# Altium schematic symbol library Miscellaneous.SchLib: 16 symbols
Pins are listed as number, name and electrical type; pins without a type are passive.

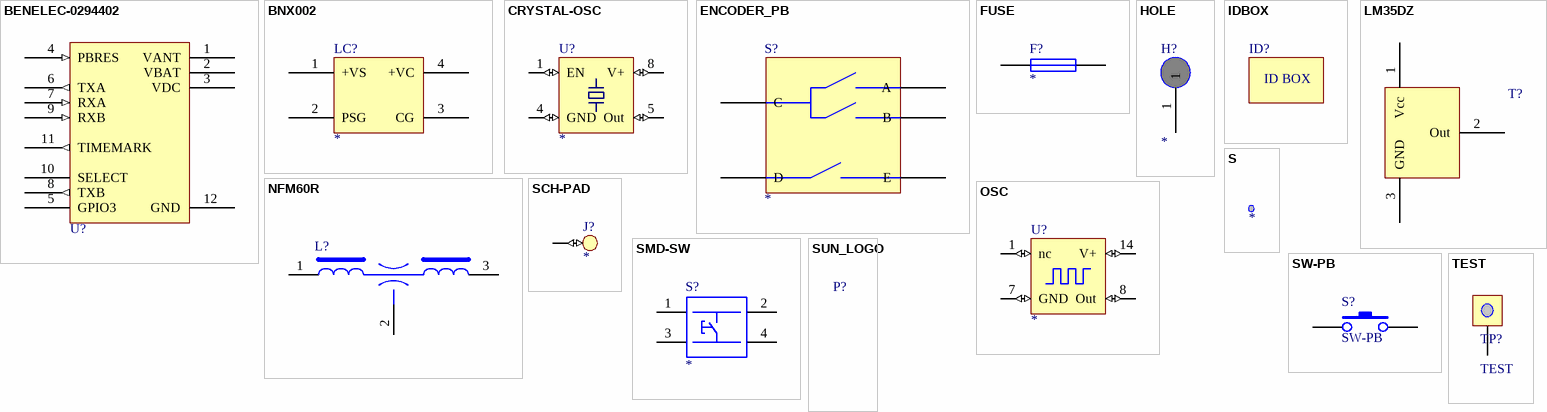
[diagram p0: symbols BENELEC-0294402 to TEST]

## BENELEC-0294402
designator U?
GPS Module; Supplier: Benelec
footprint BENELEC-0294402 (GPS Module)
pins: 1 VANT (power), 2 VBAT (power), 3 VDC (power), 4 PBRES (in), 5 GPIO3, 6 TXA (out), 7 RXA (in), 8 TXB (out), 9 RXB (in), 10 SELECT, 11 TIMEMARK (out), 12 GND (power)

## BNX002
designator LC?
10A Switchmode Supply Output Filter
footprint BNX002
pins: 1 +VS, 2 PSG, 3 CG, 4 +VC

## CRYSTAL-OSC
designator U?
Crystal Oscillator
pins: 1 EN (io), 4 GND (io), 5 Out (io), 8 V+ (io)

## ENCODER_PB
designator S?
Rotary encoder with push button
footprint CI-11
pins: 1 A, 2 B, 3 C, 4 D, 5 E

## FUSE
designator F?
Fuse
footprint FUSE0.9
footprint FUSE1.5
footprint LITTELFUSE-154
pins: 1, 2

## HOLE
designator H?
Hole
footprint M2.5
footprint M3
footprint #6
pins: 1

## IDBOX
designator ID?
footprint IDBOX (Infobox)
text: ID BOX

## LM35DZ
designator T?, comment MF35DZ  (value not drawn)
Temperature Sensor
footprint TO-92
pins: 1 Vcc (power) "Supply", 2 Out "Output", 3 GND "Ground"

## NFM60R
designator L?
Feed Through Filter; Farnell: ?; Price: ?
footprint NFM60R
pins: 1 Input, 2 GND, 3 Output

## OSC
designator U?
Digital Oscillator; Text Field1: 571-763
footprint DIP14
pins: 1 nc (io), 7 GND (io), 8 Out (io), 14 V+ (io)

## S
designator ?
Screw
footprint SCREWM3
footprint SCREWM2
footprint SCREWM2.5
footprint SCREWM4

## SCH-PAD
designator J?
A single through hole contact
footprint PCB-Pad
pins: 1 Pad (io)

## SMD-SW
designator S?
SMD Switch; Text Field1: Farnell: 959-728
footprint SMD-SW
pins: 1 A1, 2 A2, 3 B2, 4 B1

## SUN_LOGO
designator P?
footprint SUNSWIFTLOGO (Footprint not found)

## SW-PB
designator S?
footprint SM-PBUTTON
footprint PUSHBUTTON-150-246
pins: 1, 2

## TEST
designator TP?
TEST POINT
footprint TESTPOINT (Test point pad)
footprint Hole_5mm
footprint Hole_3mm
footprint Hole_2mm
footprint Hole_1.5mm
footprint Hole_1mm
footprint Hole_0.8mm
footprint Hole_0.5mm
footprint Hole_4mm
pins: 0 TP